# Altium footprint library Sensors_Board_PCB.PcbLib: 22 footprints (part 1 of 2)
Each footprint in its own frame and in the unit in brackets; x right, y up, seen from the top. Pads: shape width x height; smd on the part's side, far side on the other; paste and mask are expansions set on the pad; w line width, h text height; cw(c..) or ccw(c..) is an arc to the next point about the centre after c.
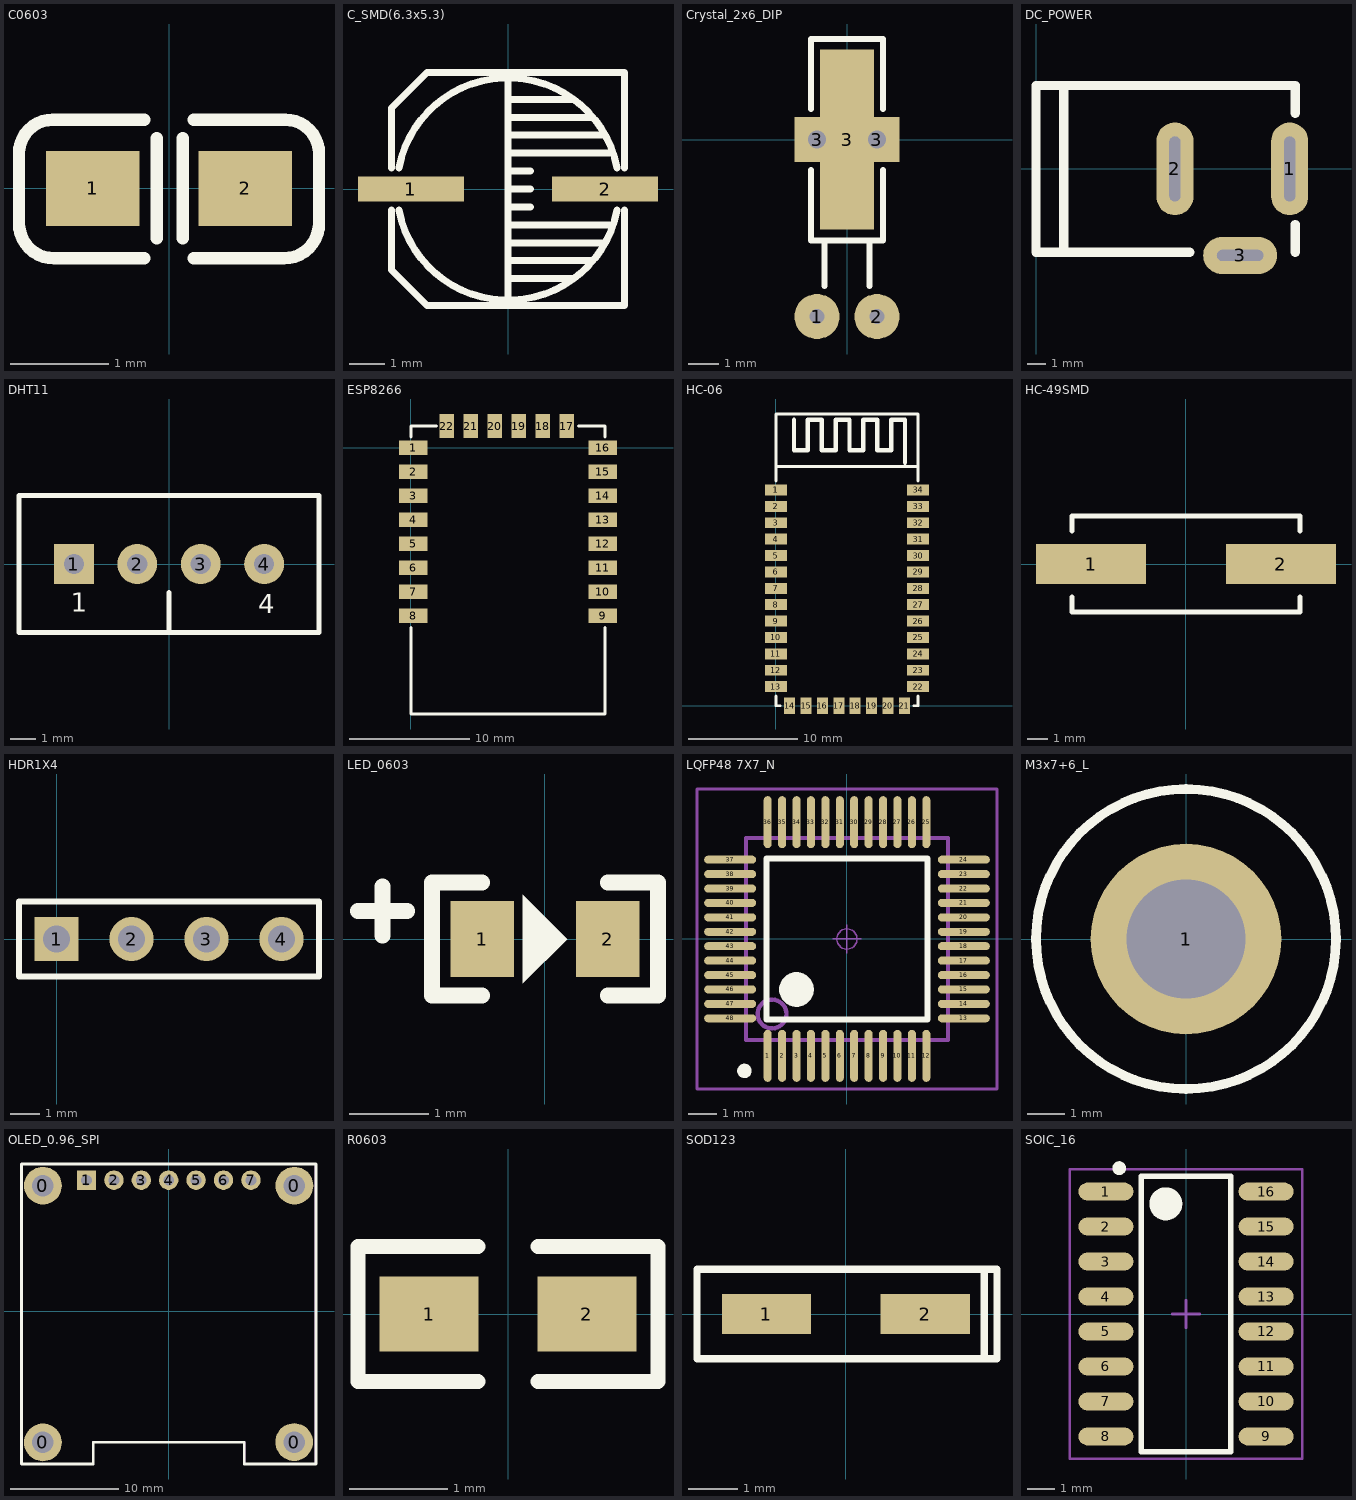
[diagram p0: the footprints below, top view; thin cyan lines are the x and y axes]

## C0603 [mm] "Chip Capacitor, 2-Leads, Body 1.6x0.8mm, IPC Medium Density"
height 0.89
pads (2):
  rect 0.95x0.762 smd: 1(-0.775,0) 2(0.775,0)
Top Overlay:
  lines w0.127: -0.254,-0.711 -1.168,-0.711 cw(c-1.168,-0.355) -1.525,-0.355 -1.525,0.356 cw(c-1.181,0.356) -1.181,0.7 -0.254,0.7 ; -0.127,-0.508 -0.127,0.508 ; 0.14,-0.508 0.14,0.508 ; 0.254,-0.711 1.168,-0.711 ccw(c1.168,-0.355) 1.525,-0.355 1.525,0.356 ccw(c1.181,0.356) 1.181,0.7 0.254,0.7
Mechanical 1:
  text ".Designator" at -1.651,-0.381 h0.8
3D body "CAPC1608(0603).STEP": height 0.6, standoff 0, extent -0.8,-0.4 0.8,0.4

## C_SMD(6.3x5.3) [mm]
height 1.75
pads (2):
  rect 3x0.7 smd: 1(-2.75,0) 2(2.75,0)
Top Overlay:
  lines w0.2: -3.3,-0.6 -3.3,-2.3 -2.3,-3.3 3.3,-3.3 3.3,-0.6 ; -3.3,0.6 -3.3,2.3 -2.3,3.3 3.3,3.3 3.3,0.6 ; -3.093,-0.599 ccw(c0,0) 3.093,-0.599 ; -3.093,0.599 cw(c0,0) 3.093,0.599 ; 0,-3.15 0,3.15 ; 0,-2.54 1.854,-2.54 ; 0,-2.032 2.388,-2.032 ; 0,-1.524 2.743,-1.524 ; 0,-1.016 2.972,-1.016 ; 0,-0.508 0.635,-0.508 ; 0,0 0.635,0 ; 0,0.508 0.635,0.508 ; 0,1.016 2.972,1.016 ; 0,1.524 2.743,1.524 ; 0,2.032 2.388,2.032 ; 0,2.54 1.854,2.54
3D body "C_SMD(6.3x5.3).STEP": height 5.42, standoff 0.02, extent -3.3,-3.3 3.3,3.3

## Crystal_2x6_DIP [mm]
height 1.75
pads (5):
  round 1.5 hole 0.5: 1(-1,-5.898) 2(1,-5.898)
  rect 1.5x1.5 hole 0.6: 3(-1,0) 3(1,0)
  rect 1.8x6 smd: 3(0,0)
Top Overlay:
  lines w0.2: -1.2,-1.016 -1.2,-3.358 1.2,-3.358 1.2,-1.016 ; -1.2,1.016 -1.2,3.358 1.2,3.358 1.2,1.016 ; -0.75,-4.882 -0.75,-3.358 ; 0.751,-4.882 0.751,-3.359
3D body "CRYSTAl 2x6_DIP.STEP": height 2.1, standoff -2.3, extent -1.15,-6.048 1.15,3.096

## DC_POWER [mm]
height 1.75
pads (3):
  oval 2x5 hole 0.6 slot 3.5 at 90 deg: 1(13.7,0) 2(7.5,0)
  oval 4x2 hole 0.6 slot 2.5 at 0 deg: 3(11.024,-4.674)
Top Overlay:
  lines w0.5: 1.5,-4.5 1.5,4.5 ; 8.3,-4.5 0,-4.5 0,4.5 14,4.5 14,3 ; 14,-4.5 14,-3
3D body "DC_5.5_M.STEP": height 11.01, standoff -3.99, extent 0,-4.8 14.1,4.5

## DHT11 [mm]
height 1.75
pads (4):
  rect 1.6x1.6 hole 0.8: 1(-3.81,0)
  round 1.6 hole 0.8: 2(-1.27,0) 3(1.27,0) 4(3.81,0)
Top Overlay:
  lines w0.2: 0,-2.75 0,-1.143 ; -6,-2.75 6,-2.75 6,2.75 -6,2.75 -6,-2.75
  text "1" at -3.937,-1.905 h0.76
  text "4" at 3.56,-1.976 h0.76

## ESP8266 [mm]
height 1.75
pads (22):
  rect 2.4x1.2 smd: 1(0.2,0) 2(0.2,-2) 3(0.2,-4) 4(0.2,-6) 5(0.2,-8) 6(0.2,-10) 7(0.2,-12) 8(0.2,-14) 9(16,-14) 10(16,-12) 11(16,-10) 12(16,-8) 13(16,-6) 14(16,-4) 15(16,-2) 16(16,0)
  rect 1.2x2 smd: 17(13,1.8) 18(11,1.8) 19(9,1.8) 20(7,1.8) 21(5,1.8) 22(3,1.8)
Top Overlay:
  lines w0.254: 0,-14.986 0,-22.2 16.2,-22.2 16.2,-14.986 ; 0,0.889 0,1.8 2.159,1.8 ; 13.97,1.8 16.2,1.8 16.2,0.889

## HC-06 [mm]
height 1.75
pads (35):
  rect 2x1 smd: 1(0,19.75) 1(0,19.75) 2(0,18.25) 3(0,16.75) 4(0,15.25) 5(0,13.75) 6(0,12.25) 7(0,10.75) 8(0,9.25) 9(0,7.75) 10(0,6.25) 11(0,4.75) 12(0,3.25) 13(0,1.75) 22(13,1.75) 23(13,3.25) 24(13,4.75) 25(13,6.25) 26(13,7.75) 27(13,9.25) 28(13,10.75) 29(13,12.25) 30(13,13.75) 31(13,15.25) 32(13,16.75) 33(13,18.25) 34(13,19.75)
  rect 1x1.5 smd: 14(1.25,0) 15(2.75,0) 16(4.25,0) 17(5.75,0) 18(7.25,0) 19(8.75,0) 20(10.25,0) 21(11.75,0)
Top Overlay:
  lines w0.254: 0,0.889 0,0 0.381,0 ; 0,20.574 0,26.7 13,26.7 13,20.574 ; 0,21.9 12.954,21.9 ; 12.619,0 13,0 13,0.889
  lines w0.4: 1.651,26.162 1.651,23.368 2.921,23.368 2.921,26.162 4.191,26.162 4.191,23.368 5.461,23.368 5.461,26.162 6.731,26.162 6.731,23.368 8.001,23.368 8.001,26.162 9.271,26.162 9.271,23.368 10.541,23.368 10.541,26.162 11.811,26.162 11.811,22.225

## HC-49SMD [mm]
height 1.75
pads (2):
  rect 5.5x2 smd: 1(-4.75,0) 2(4.75,0)
Top Overlay:
  lines w0.254: -5.7,-1.65 -5.7,-2.4 5.7,-2.4 5.7,-1.65 ; -5.7,1.65 -5.7,2.4 5.7,2.4 5.7,1.65
Mechanical 1:
  text ".Designator" at -3.175,-0.127 h0.8
3D body "User Library-hc49_cystal.STEP": height 4, standoff 0, extent -6.7,-2.462 6.7,2.438

## HDR1X4 [mm] "Connector; Header; 4 Position"
height 1.75
pads (4):
  rect 1.5x1.5 hole 0.9: 1(0,0)
  round 1.5 hole 0.9: 2(2.54,0) 3(5.08,0) 4(7.62,0)
Top Overlay:
  lines w0.2: -1.27,-1.27 -1.27,1.27 8.89,1.27 8.89,-1.27 -1.27,-1.27

## LED_0603 [mm]
height 1.75
pads (2):
  rect 0.8x0.96 smd: 1(-0.79,0) 2(0.79,0)
Top Overlay:
  region: -0.279,0.559 -0.279,-0.559 0.279,0
  lines w0.2: -2.352,0.351 -1.732,0.351 ; -2.042,0.041 -2.042,0.661 ; -0.79,-0.711 -1.422,-0.711 -1.422,0.711 -0.79,0.711 ; 0.79,-0.711 1.422,-0.711 1.422,0.711 0.79,0.711
Mechanical 1:
  text ".Designator" at -2.286,-0.254 h0.8
3D body "LED0603(B).STEP": height 0.6, standoff 0, extent -0.81,-0.4 0.81,0.4

## LQFP48 7X7_N [mm] "7*7*1.4(长宽高，除引脚）"
height 1.6
pads (48):
  oval 0.279x1.8 smd: 1(-2.75,-4.05) 2(-2.25,-4.05) 3(-1.75,-4.05) 4(-1.25,-4.05) 5(-0.75,-4.05) 6(-0.25,-4.05) 7(0.25,-4.05) 8(0.75,-4.05) 9(1.25,-4.05) 10(1.75,-4.05) 11(2.25,-4.05) 12(2.75,-4.05) 25(2.75,4.05) 26(2.25,4.05) 27(1.75,4.05) 28(1.25,4.05) 29(0.75,4.05) 30(0.25,4.05) 31(-0.25,4.05) 32(-0.75,4.05) 33(-1.25,4.05) 34(-1.75,4.05) 35(-2.25,4.05) 36(-2.75,4.05)
  oval 1.8x0.279 smd: 13(4.05,-2.75) 14(4.05,-2.25) 15(4.05,-1.75) 16(4.05,-1.25) 17(4.05,-0.75) 18(4.05,-0.25) 19(4.05,0.25) 20(4.05,0.75) 21(4.05,1.25) 22(4.05,1.75) 23(4.05,2.25) 24(4.05,2.75) 37(-4.05,2.75) 38(-4.05,2.25) 39(-4.05,1.75) 40(-4.05,1.25) 41(-4.05,0.75) 42(-4.05,0.25) 43(-4.05,-0.25) 44(-4.05,-0.75) 45(-4.05,-1.25) 46(-4.05,-1.75) 47(-4.05,-2.25) 48(-4.05,-2.75)
Top Overlay:
  circle w0.25: c-3.556,-4.572 r0.125
  circle w0.6: c-1.75,-1.75 r0.3
  lines w0.2: -2.794,-2.794 2.794,-2.794 2.794,2.794 -2.794,2.794 -2.794,-2.794
Mechanical 13:
  circle w0.15: c-2.6,-2.6 r0.5
  lines w0.15: -3.5,-3.5 -3.5,3.5 3.5,3.5 3.5,-3.5 -3.5,-3.5
Mechanical 15:
  circle w0.05: c0,0 r0.35
  lines w0.05: -0.5,0 0.5,0 ; 0,-0.5 0,0.5
  lines w0.1: -5.2,-5.2 5.2,-5.2 5.2,5.2 -5.2,5.2 -5.2,-5.2
3D body "LQFP48-7x7.STEP": height 1.45, standoff 0, extent -4.5,-4.5 4.5,4.5

## M3x7+6_L [mm] "M3铜柱，长：7mm，螺纹长：6mm"
height 1.75
pads (1):
  round 5.08 hole 3.175: 1(0,0)
Top Overlay:
  circle w0.254: c0,0 r4
3D body "M3x7+6.STEP": height 7.05, standoff -5.95, extent -2.698,-2.35 2.698,2.35

## OLED_0.96_SPI [mm] "GND、VCC、SCL、SDA"
height 4.06
pads (11):
  round 3.5 hole 2 mask+0.102: 0(-11.659,-12.154) 0(-11.659,11.646) 0(11.633,-12.128) 0(11.659,11.646)
  rect 1.8x1.8 hole 1 mask+0.102: 1(-7.62,12.154)
  round 1.8 hole 1 mask+0.102: 2(-5.08,12.154) 3(-2.54,12.154) 4(0,12.154) 5(2.54,12.154) 6(5.08,12.154) 7(7.62,12.154)
Top Overlay:
  lines w0.127: -7,-12.146 -6.982,-12.128 ; 7,-12.139 7.01,-12.128
  lines w0.254: -7,-12.146 -7,-14.146 -13.65,-14.146 -13.65,13.654 13.64,13.654 ; -6.982,-12.128 4.982,-12.128 7.01,-12.128 ; 7,-12.139 7,-14.146 13.65,-14.146 13.65,13.654
Mechanical 25:
  lines w0.2: -13.65,-14.146 -13.65,13.654 13.64,13.654 13.64,-14.121 ccw(c13.675,-14.121) 13.65,-14.146 7,-14.146 7,-12.154 cw(c7.036,-12.154) 7.01,-12.128 -6.958,-12.128 ccw(c-6.958,-12.189) -7,-12.146 -7,-14.146 -13.65,-14.146
  text ".designator" at -2.758,-0.231 h0.76

## R0603 [mm] "Chip Resistor, 2-Leads, Body 1.6x0.8mm, IPC Medium Density"
height 0.89
pads (2):
  rect 1x0.762 smd: 1(-0.8,0) 2(0.8,0)
Top Overlay:
  lines w0.152: -0.304,-0.686 -1.52,-0.686 -1.52,0.686 -0.304,0.686 ; 0.304,-0.686 1.52,-0.686 1.52,0.686 0.304,0.686
Mechanical 1:
  text ".Designator" at -1.905,-0.254 h0.8
3D body "RESC1608(0603).STEP": height 0.38, standoff 0, extent -0.8,-0.4 0.8,0.4

## SOD123 [mm]
height 1.75
pads (2):
  rect 1.8x0.8 smd: 1(-1.6,0) 2(1.6,0)
Top Overlay:
  lines w0.15: 2.794,-0.889 2.794,0.889 ; -3,-0.9 3.048,-0.9 3.048,0.9 -3,0.9 -3,-0.9
Mechanical 1:
  text ".Designator" at -2.413,-0.254 h0.8
3D body "SW3DPS-SOD123-DEFAULT.STEP": height 1.27, standoff 0, extent -1.85,-0.8 1.85,0.8

## SOIC_16 [mm]
height 1.75
pads (16):
  oval 2x0.65 smd: 1(-2.906,4.445) 2(-2.906,3.175) 3(-2.906,1.905) 4(-2.906,0.635) 5(-2.906,-0.635) 6(-2.906,-1.905) 7(-2.906,-3.175) 8(-2.906,-4.445) 9(2.906,-4.445) 10(2.906,-3.175) 11(2.906,-1.905) 12(2.906,-0.635) 13(2.906,0.635) 14(2.906,1.905) 15(2.906,3.175) 16(2.906,4.445)
Top Overlay:
  circle w0.25: c-2.425,5.295 r0.125
  circle w0.6: c-0.735,4 r0.3
  lines w0.2: -1.626,-5 -1.626,5 1.626,5 1.626,-5 -1.626,-5
Mechanical 15:
  lines w0.1: -0.5,0 0.5,0 ; 0,-0.5 0,0.5 ; -4.216,-5.25 -4.216,5.25 4.216,5.25 4.216,-5.25 -4.216,-5.25
3D body "SOIC_16.STEP": height 1.48, standoff -0.01, extent -3.055,-5 3.056,5